# EAGLE library part LTC4055 (library Ava)
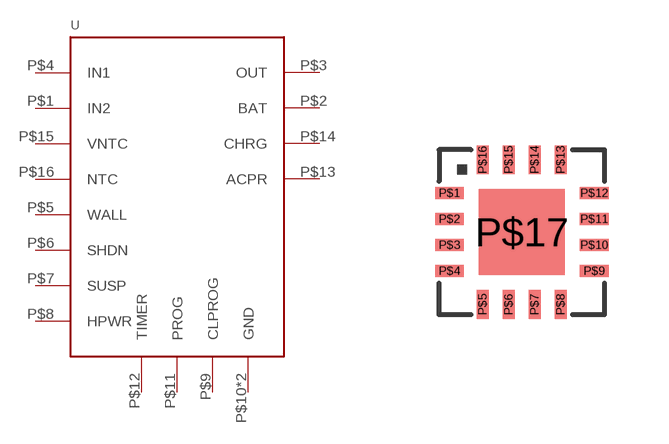
[diagram p46: symbol with the pads of LTC_05-08-1692-16-UF-QFN-PAD; footprint LTC_05-08-1692-16-UF-QFN-PAD]

Designator prefix -

## LTC4055  [LTC_05-08-1692-16-UF-QFN-PAD]
P$1  IN2
P$2  BAT
P$3  OUT
P$4  IN1
P$5  WALL
P$6  SHDN
P$7  SUSP
P$8  HPWR
P$9  CLPROG
P$10  GND
P$11  PROG
P$12  TIMER
P$13  ACPR
P$14  CHRG
P$15  VNTC
P$16  NTC
P$17  GND

## Footprint LTC_05-08-1692-16-UF-QFN-PAD (pad centres in mm)
smd 0.72 x 0.3: P$1 -1.81,0.975; P$2 -1.81,0.325; P$3 -1.81,-0.325; P$4 -1.81,-0.975; P$9 1.81,-0.975; P$10 1.81,-0.325; P$11 1.81,0.325; P$12 1.81,0.975
smd 0.3 x 0.72: P$5 -0.975,-1.81; P$6 -0.325,-1.81; P$7 0.325,-1.81; P$8 0.975,-1.81; P$13 0.975,1.81; P$14 0.325,1.81; P$15 -0.325,1.81; P$16 -0.975,1.81
smd 2.15 x 2.15: P$17 0,0